# Altium footprint library PCB - LEADLESS - QFN - TI VQFN-18 RNV0018B.PcbLib: 1 footprints
Each footprint in its own frame and in the unit in brackets; x right, y up, seen from the top. Pads: shape width x height; smd on the part's side, far side on the other; paste and mask are expansions set on the pad; w line width, h text height; cw(c..) or ccw(c..) is an arc to the next point about the centre after c.
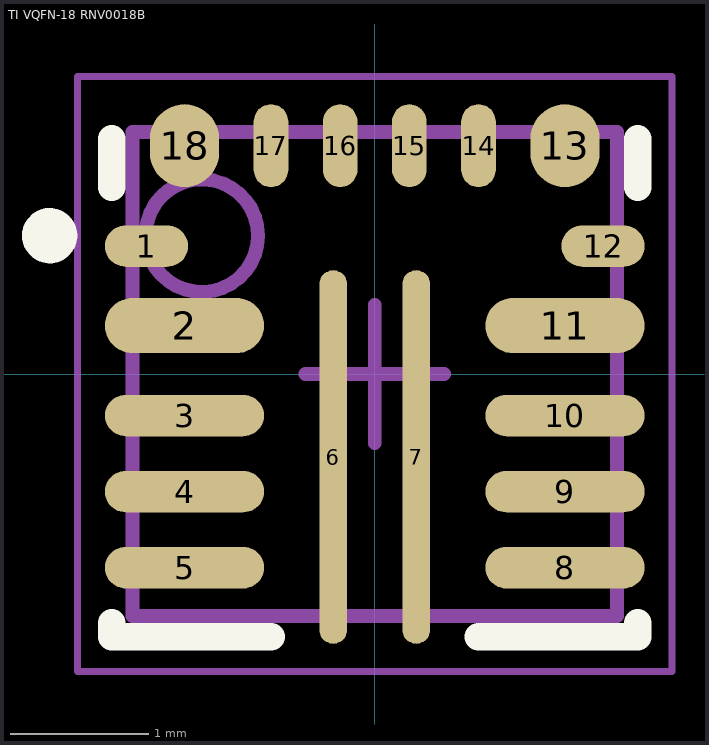
[diagram p0: the footprint, top view; thin cyan lines are the x and y axes]

## TI VQFN-18 RNV0018B [mm] "VQFN, 18-Leads, Body 3.5x3.5mm, Pitch 0.55mm"
height 1
pads (18):
  oval 0.6x0.3 smd: 1(-1.65,0.925) 12(1.65,0.925)
  oval 1.15x0.4 smd: 2(-1.375,0.35) 11(1.375,0.35)
  oval 1.15x0.3 smd: 3(-1.375,-0.3) 4(-1.375,-0.85) 5(-1.375,-1.4) 8(1.375,-1.4) 9(1.375,-0.85) 10(1.375,-0.3)
  oval 0.2x2.7 smd: 6(-0.3,-0.6) 7(0.3,-0.6)
  oval 0.5x0.6 smd: 13(1.375,1.65) 18(-1.375,1.65)
  oval 0.25x0.6 smd: 14(0.75,1.65) 15(0.25,1.65) 16(-0.25,1.65) 17(-0.75,1.65)
Top Overlay:
  circle w0.2: c-2.35,1 r0.1
  lines w0.2: -1.9,-1.8 -1.9,-1.9 -0.75,-1.9 ; -1.9,1.35 -1.9,1.7 ; 0.75,-1.9 1.9,-1.9 1.9,-1.8 ; 1.9,1.35 1.9,1.7
Mechanical 1:
  circle w0.1: c-1.25,1 r0.407
  lines w0.1: -1.75,-1.75 1.75,-1.75 1.75,1.75 -1.75,1.75 -1.75,-1.75
Mechanical 15:
  lines w0.05: -2.15,-2.15 2.15,-2.15 2.15,2.15 -2.15,2.15 -2.15,-2.15
  lines w0.1: -0.5,0 0,0 ; 0,-0.5 0,0 ; 0,0.5 0,0 ; 0.5,0 0,0
3D body "TI - VQFN-18 - RNV0018B v1.step": height 1, standoff 0, extent -1.75,-1.75 1.75,1.75